# Altium integrated library NSC LDO.IntLib: 2590 symbols (part 57 of 64)
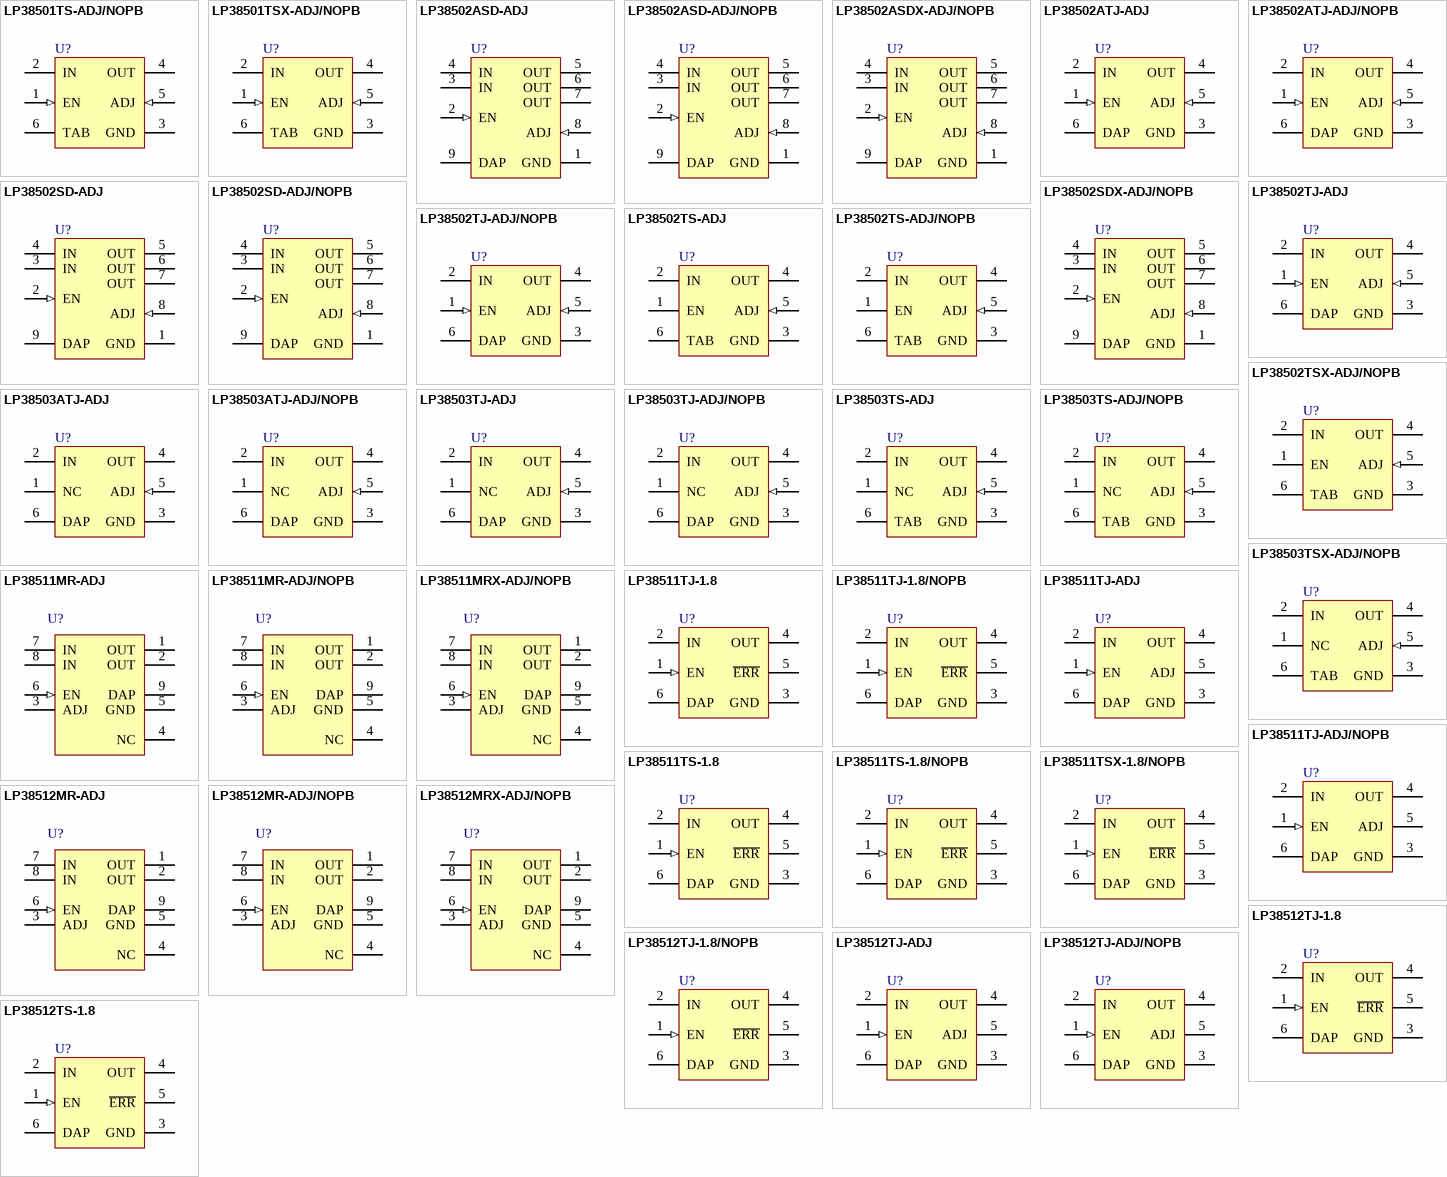
[diagram p121: symbols LP38501TS-ADJ/NOPB to LP38512TS-1.8]

## LP38502ATJ-ADJ
designator U?
1.5A FlexCap Low Dropout Linear Regulator for 2.7V to 5.5V Inputs, 6-pin TO-263 Thin; PartNumber: LP38502ATJ-ADJ; Manufacturer: National Semiconductor; PackageTopMarking: NSUZXYTTE#*LP38502A*TJ-ADJ; PowerWise: N; CompType: LDO IC; Published: 4-Dec-2008; DatasheetVersion: May-2008; PackageVersion: revE, Jan-2008; PackageReference: TJ5A; Publisher: Altium Limited; PackageDescription: Thin TO-263, Molded, 9.85 x 10.16 x 2mm Body, 5 Lead, 1.7mm Pitch, Surface Mount; RoHS: Y; PinCount: 5; ComponentLink1Description: LP38502-ADJ Datasheet; ComponentLink1URL: http://www.national.com/ds/LP/LP38502-ADJ.pdf; ComponentLink2Description: LP38502-ADJ Web Page; ComponentLink2URL: http://www.national.com/pf/LP/LP38500-ADJ.html; ComponentLink3Description: TJ5A Package Page; ComponentLink3URL: http://www.national.com/packaging/folders/tj5a.html
footprint TJ5A_N (D2-PAK, 6-Leads, Body 9.9x10.2mm, Pitch 1.7mm, Lead Span 14mm, IPC Medium Density)
footprint TJ5A_L (D2-PAK, 6-Leads, Body 9.9x10.2mm, Pitch 1.7mm, Lead Span 14mm, IPC High Density)
footprint TJ5A_M (D2-PAK, 6-Leads, Body 9.9x10.2mm, Pitch 1.7mm, Lead Span 14mm, IPC Low Density)
pins: 1 EN (in), 2 IN (power), 3 GND (power), 4 OUT (power), 5 ADJ (in), 6 DAP (power)

## LP38502ATJ-ADJ/NOPB
designator U?
1.5A FlexCap Low Dropout Linear Regulator for 2.7V to 5.5V Inputs, 5-pin TO-263 Thin, Pb-Free; PartNumber: LP38502ATJ-ADJ/NOPB; Manufacturer: National Semiconductor; PackageTopMarking: NSUZXYTTE#*LP38502A*TJ-ADJ; PowerWise: N; CompType: LDO IC; Published: 1-Mar-2010; DatasheetVersion: May-2008; PackageVersion: revE, Jan-2008; PackageReference: TJ5A; Publisher: Altium Limited; PackageDescription: Thin TO-263, Molded, 9.85 x 10.16 x 2mm Body, 5 Lead, 1.7mm Pitch, Surface Mount; Supplier 1: Digi-Key; Supplier Part Number 1: LP38502ATJ-ADJTR-ND; Supplier 2: Digi-Key; Supplier Part Number 2: LP38502ATJ-ADJCT-ND; Supplier 3: Digi-Key; Supplier Part Number 3: LP38502ATJ-ADJDKR-ND; RoHS: Y; PinCount: 5; ComponentLink1Description: LP38502-ADJ Datasheet; ComponentLink1URL: http://www.national.com/ds/LP/LP38502-ADJ.pdf; ComponentLink2Description: LP38502-ADJ Web Page; ComponentLink2URL: http://www.national.com/pf/LP/LP38502-ADJ.html; ComponentLink3Description: TJ5A Package Page; ComponentLink3URL: http://www.national.com/packaging/folders/tj5a.html
footprint TJ5A_N (D2-PAK, 6-Leads, Body 9.9x10.2mm, Pitch 1.7mm, Lead Span 14mm, IPC Medium Density)
footprint TJ5A_L (D2-PAK, 6-Leads, Body 9.9x10.2mm, Pitch 1.7mm, Lead Span 14mm, IPC High Density)
footprint TJ5A_M (D2-PAK, 6-Leads, Body 9.9x10.2mm, Pitch 1.7mm, Lead Span 14mm, IPC Low Density)
pins: 1 EN (in), 2 IN (power), 3 GND (power), 4 OUT (power), 5 ADJ (in), 6 DAP (power)

## LP38502SD-ADJ
designator U?
1.5A FlexCap Low Dropout Linear Regulator for 2.7V to 5.5V Inputs, 8-pin LLP; PartNumber: LP38502SD-ADJ; Manufacturer: National Semiconductor; PackageTopMarking: XYTT*LKVB; PowerWise: N; CompType: LDO IC; Published: 4-Dec-2008; DatasheetVersion: May-2008; PackageVersion: revA, Jan-2004; PackageReference: SDA08C; Publisher: Altium Limited; PackageDescription: LLP, Plastic, Dual, 2.5 x 3.0 x 0.8mm Body, 8 Lead, 0.5mm Pitch, No Pullback; RoHS: Y; PinCount: 8; ComponentLink1Description: LP38502-ADJ Datasheet; ComponentLink1URL: http://www.national.com/ds/LP/LP38502-ADJ.pdf; ComponentLink2Description: LP38502-ADJ Web Page; ComponentLink2URL: http://www.national.com/pf/LP/LP38500-ADJ.html; ComponentLink3Description: SDA08C Package Page; ComponentLink3URL: http://www.national.com/packaging/folders/sda08c.html
footprint SDA08C (SON, 8-Leads, Body 2.5x3mm, Pitch 0.5mm, NSC Recommended)
pins: 1 GND (power), 2 EN (in), 3 IN (power), 4 IN (power), 5 OUT (power), 6 OUT (power), 7 OUT (power), 8 ADJ (in), 9 DAP (power)

## LP38502SD-ADJ/NOPB
designator U?
1.5A FlexCap Low Dropout Linear Regulator for 2.7V to 5.5V Inputs, 8-pin LLP, Pb-Free; PartNumber: LP38502SD-ADJ/NOPB; Manufacturer: National Semiconductor; PackageTopMarking: XYTT*LKVB; PowerWise: N; CompType: LDO IC; Published: 1-Mar-2010; DatasheetVersion: May-2008; PackageVersion: revA, Jan-2004; PackageReference: SDA08C; Publisher: Altium Limited; PackageDescription: LLP, Plastic, Dual, 2.5 x 3.0 x 0.8mm Body, 8 Lead, 0.5mm Pitch, No Pullback; Supplier 1: Digi-Key; Supplier Part Number 1: LP38502SD-ADJTR-ND; Supplier 2: Digi-Key; Supplier Part Number 2: LP38502SD-ADJCT-ND; Supplier 3: Digi-Key; Supplier Part Number 3: LP38502SD-ADJDKR-ND; Supplier 4: Farnell; Supplier Part Number 4: 1685575; RoHS: Y; PinCount: 8; ComponentLink1Description: LP38502-ADJ Datasheet; ComponentLink1URL: http://www.national.com/ds/LP/LP38502-ADJ.pdf; ComponentLink2Description: LP38502-ADJ Web Page; ComponentLink2URL: http://www.national.com/pf/LP/LP38502-ADJ.html; ComponentLink3Description: SDA08C Package Page; ComponentLink3URL: http://www.national.com/packaging/folders/sda08c.html
footprint SDA08C (SON, 8-Leads, Body 2.5x3mm, Pitch 0.5mm, NSC Recommended)
pins: 1 GND (power), 2 EN (in), 3 IN (power), 4 IN (power), 5 OUT (power), 6 OUT (power), 7 OUT (power), 8 ADJ (in), 9 DAP (power)

## LP38502SDX-ADJ/NOPB
designator U?
1.5A FlexCap Low Dropout Linear Regulator for 2.7V to 5.5V Inputs, 8-pin LLP, Pb-Free; PartNumber: LP38502SDX-ADJ/NOPB; Manufacturer: National Semiconductor; PackageTopMarking: XYTT*LKVB; PowerWise: N; CompType: LDO IC; Published: 1-Mar-2010; DatasheetVersion: May-2008; PackageVersion: revA, Jan-2004; PackageReference: SDA08C; Publisher: Altium Limited; PackageDescription: LLP, Plastic, Dual, 2.5 x 3.0 x 0.8mm Body, 8 Lead, 0.5mm Pitch, No Pullback; Supplier 1: Digi-Key; Supplier Part Number 1: LP38502SDX-ADJ-ND; RoHS: Y; PinCount: 8; ComponentLink1Description: LP38502-ADJ Datasheet; ComponentLink1URL: http://www.national.com/ds/LP/LP38502-ADJ.pdf; ComponentLink2Description: LP38502-ADJ Web Page; ComponentLink2URL: http://www.national.com/pf/LP/LP38502-ADJ.html; ComponentLink3Description: SDA08C Package Page; ComponentLink3URL: http://www.national.com/packaging/folders/sda08c.html
footprint SDA08C (SON, 8-Leads, Body 2.5x3mm, Pitch 0.5mm, NSC Recommended)
pins: 1 GND (power), 2 EN (in), 3 IN (power), 4 IN (power), 5 OUT (power), 6 OUT (power), 7 OUT (power), 8 ADJ (in), 9 DAP (power)

## LP38502TJ-ADJ
designator U?
1.5A FlexCap Low Dropout Linear Regulator for 2.7V to 5.5V Inputs, 6-pin TO-263 Thin; PartNumber: LP38502TJ-ADJ; Manufacturer: National Semiconductor; PackageTopMarking: NSUZXYTTE#*LP38502*TJ-ADJ; PowerWise: N; CompType: LDO IC; Published: 4-Dec-2008; DatasheetVersion: May-2008; PackageVersion: revE, Jan-2008; PackageReference: TJ5A; Publisher: Altium Limited; PackageDescription: Thin TO-263, Molded, 9.85 x 10.16 x 2mm Body, 5 Lead, 1.7mm Pitch, Surface Mount; RoHS: Y; PinCount: 5; ComponentLink1Description: LP38502-ADJ Datasheet; ComponentLink1URL: http://www.national.com/ds/LP/LP38502-ADJ.pdf; ComponentLink2Description: LP38502-ADJ Web Page; ComponentLink2URL: http://www.national.com/pf/LP/LP38500-ADJ.html; ComponentLink3Description: TJ5A Package Page; ComponentLink3URL: http://www.national.com/packaging/folders/tj5a.html
footprint TJ5A_N (D2-PAK, 6-Leads, Body 9.9x10.2mm, Pitch 1.7mm, Lead Span 14mm, IPC Medium Density)
footprint TJ5A_L (D2-PAK, 6-Leads, Body 9.9x10.2mm, Pitch 1.7mm, Lead Span 14mm, IPC High Density)
footprint TJ5A_M (D2-PAK, 6-Leads, Body 9.9x10.2mm, Pitch 1.7mm, Lead Span 14mm, IPC Low Density)
pins: 1 EN (in), 2 IN (power), 3 GND (power), 4 OUT (power), 5 ADJ (in), 6 DAP (power)

## LP38502TJ-ADJ/NOPB
designator U?
1.5A FlexCap Low Dropout Linear Regulator for 2.7V to 5.5V Inputs, 5-pin TO-263 Thin, Pb-Free; PartNumber: LP38502TJ-ADJ/NOPB; Manufacturer: National Semiconductor; PackageTopMarking: NSUZXYTTE#*LP38502*TJ-ADJ; PowerWise: N; CompType: LDO IC; Published: 1-Mar-2010; DatasheetVersion: May-2008; PackageVersion: revE, Jan-2008; PackageReference: TJ5A; Publisher: Altium Limited; PackageDescription: Thin TO-263, Molded, 9.85 x 10.16 x 2mm Body, 5 Lead, 1.7mm Pitch, Surface Mount; Supplier 1: Digi-Key; Supplier Part Number 1: LP38502TJ-ADJTR-ND; Supplier 2: Digi-Key; Supplier Part Number 2: LP38502TJ-ADJCT-ND; Supplier 3: Digi-Key; Supplier Part Number 3: LP38502TJ-ADJDKR-ND; RoHS: Y; PinCount: 5; ComponentLink1Description: LP38502-ADJ Datasheet; ComponentLink1URL: http://www.national.com/ds/LP/LP38502-ADJ.pdf; ComponentLink2Description: LP38502-ADJ Web Page; ComponentLink2URL: http://www.national.com/pf/LP/LP38502-ADJ.html; ComponentLink3Description: TJ5A Package Page; ComponentLink3URL: http://www.national.com/packaging/folders/tj5a.html
footprint TJ5A_N (D2-PAK, 6-Leads, Body 9.9x10.2mm, Pitch 1.7mm, Lead Span 14mm, IPC Medium Density)
footprint TJ5A_L (D2-PAK, 6-Leads, Body 9.9x10.2mm, Pitch 1.7mm, Lead Span 14mm, IPC High Density)
footprint TJ5A_M (D2-PAK, 6-Leads, Body 9.9x10.2mm, Pitch 1.7mm, Lead Span 14mm, IPC Low Density)
pins: 1 EN (in), 2 IN (power), 3 GND (power), 4 OUT (power), 5 ADJ (in), 6 DAP (power)

## LP38502TS-ADJ
designator U?
1.5A FlexCap Low Dropout Linear Regulator for 2.7V to 5.5V Inputs, 5-pin TO-263; PartNumber: LP38502TS-ADJ; Manufacturer: National Semiconductor; PackageTopMarking: NSUZXYTTE#*LP38502*TS-ADJ; PowerWise: N; CompType: LDO IC; Published: 4-Dec-2008; DatasheetVersion: May-2008; PackageVersion: revD, Apr-2005; PackageReference: TS5B; Publisher: Altium Limited; PackageDescription: TO-263, Molded, .400 x .390 x .180in, 5 Lead, .067in Pitch, Surface Mount; RoHS: Y; PinCount: 5; Code_JEDEC: MO-169-AB; ComponentLink1Description: LP38502-ADJ Datasheet; ComponentLink1URL: http://www.national.com/ds/LP/LP38502-ADJ.pdf; ComponentLink2Description: LP38502-ADJ Web Page; ComponentLink2URL: http://www.national.com/pf/LP/LP38500-ADJ.html; ComponentLink3Description: TS5B Package Page; ComponentLink3URL: http://www.national.com/packaging/folders/ts5b.html
footprint TS5B_N (D2-PAK, 6-Leads, Body 8.6x10.2mm, Pitch 1.7mm, Lead Span 14.1mm, IPC Medium Density)
footprint TS5B_L (D2-PAK, 6-Leads, Body 8.6x10.2mm, Pitch 1.7mm, Lead Span 14.1mm, IPC High Density)
footprint TS5B_M (D2-PAK, 6-Leads, Body 8.6x10.2mm, Pitch 1.7mm, Lead Span 14.1mm, IPC Low Density)
pins: 1 EN, 2 IN (power), 3 GND (power), 4 OUT (power), 5 ADJ (in), 6 TAB (power)

## LP38502TS-ADJ/NOPB
designator U?
1.5A FlexCap Low Dropout Linear Regulator for 2.7V to 5.5V Inputs, 5-pin TO-263, Pb-Free; PartNumber: LP38502TS-ADJ/NOPB; Manufacturer: National Semiconductor; PackageTopMarking: NSUZXYTTE#*LP38502*TS-ADJ; PowerWise: N; CompType: LDO IC; Published: 1-Mar-2010; DatasheetVersion: May-2008; PackageVersion: revD, Apr-2005; PackageReference: TS5B; Publisher: Altium Limited; PackageDescription: TO-263, Molded, .400 x .390 x .180in, 5 Lead, .067in Pitch, Surface Mount; Supplier 1: Digi-Key; Supplier Part Number 1: LP38502TS-ADJ-ND; RoHS: Y; PinCount: 5; Code_JEDEC: MO-169-AB; ComponentLink1Description: LP38502-ADJ Datasheet; ComponentLink1URL: http://www.national.com/ds/LP/LP38502-ADJ.pdf; ComponentLink2Description: LP38502-ADJ Web Page; ComponentLink2URL: http://www.national.com/pf/LP/LP38502-ADJ.html; ComponentLink3Description: TS5B Package Page; ComponentLink3URL: http://www.national.com/packaging/folders/ts5b.html
footprint TS5B_N (D2-PAK, 6-Leads, Body 8.6x10.2mm, Pitch 1.7mm, Lead Span 14.1mm, IPC Medium Density)
footprint TS5B_L (D2-PAK, 6-Leads, Body 8.6x10.2mm, Pitch 1.7mm, Lead Span 14.1mm, IPC High Density)
footprint TS5B_M (D2-PAK, 6-Leads, Body 8.6x10.2mm, Pitch 1.7mm, Lead Span 14.1mm, IPC Low Density)
pins: 1 EN, 2 IN (power), 3 GND (power), 4 OUT (power), 5 ADJ (in), 6 TAB (power)

## LP38502TSX-ADJ/NOPB
designator U?
1.5A FlexCap Low Dropout Linear Regulator for 2.7V to 5.5V Inputs, 5-pin TO-263, Pb-Free; PartNumber: LP38502TSX-ADJ/NOPB; Manufacturer: National Semiconductor; PackageTopMarking: NSUZXYTTE#*LP38502*TS-ADJ; PowerWise: N; CompType: LDO IC; Published: 1-Mar-2010; DatasheetVersion: May-2008; PackageVersion: revD, Apr-2005; PackageReference: TS5B; Publisher: Altium Limited; PackageDescription: TO-263, Molded, .400 x .390 x .180in, 5 Lead, .067in Pitch, Surface Mount; Supplier 1: Digi-Key; Supplier Part Number 1: LP38502TSX-ADJTR-ND; Supplier 2: Digi-Key; Supplier Part Number 2: LP38502TSX-ADJCT-ND; Supplier 3: Digi-Key; Supplier Part Number 3: LP38502TSX-ADJDKR-ND; Supplier 4: Farnell; Supplier Part Number 4: 1694368; RoHS: Y; PinCount: 5; Code_JEDEC: MO-169-AB; ComponentLink1Description: LP38502-ADJ Datasheet; ComponentLink1URL: http://www.national.com/ds/LP/LP38502-ADJ.pdf; ComponentLink2Description: LP38502-ADJ Web Page; ComponentLink2URL: http://www.national.com/pf/LP/LP38502-ADJ.html; ComponentLink3Description: TS5B Package Page; ComponentLink3URL: http://www.national.com/packaging/folders/ts5b.html
footprint TS5B_N (D2-PAK, 6-Leads, Body 8.6x10.2mm, Pitch 1.7mm, Lead Span 14.1mm, IPC Medium Density)
footprint TS5B_L (D2-PAK, 6-Leads, Body 8.6x10.2mm, Pitch 1.7mm, Lead Span 14.1mm, IPC High Density)
footprint TS5B_M (D2-PAK, 6-Leads, Body 8.6x10.2mm, Pitch 1.7mm, Lead Span 14.1mm, IPC Low Density)
pins: 1 EN, 2 IN (power), 3 GND (power), 4 OUT (power), 5 ADJ (in), 6 TAB (power)

## LP38503ATJ-ADJ
designator U?
3A FlexCap Low Dropout Linear Regulator for 2.7V to 5.5V Inputs, 6-pin TO-263 Thin; PartNumber: LP38503ATJ-ADJ; Manufacturer: National Semiconductor; PackageTopMarking: NSUZXYTTE#*LP38503A*TJ-ADJ; PowerWise: N; CompType: LDO IC; Published: 4-Dec-2008; DatasheetVersion: May-2008; PackageVersion: revE, Jan-2008; PackageReference: TJ5A; Publisher: Altium Limited; PackageDescription: Thin TO-263, Molded, 9.85 x 10.16 x 2mm Body, 5 Lead, 1.7mm Pitch, Surface Mount; RoHS: Y; PinCount: 5; ComponentLink1Description: LP38503-ADJ Datasheet; ComponentLink1URL: http://www.national.com/ds/LP/LP38503-ADJ.pdf; ComponentLink2Description: LP38503-ADJ Web Page; ComponentLink2URL: http://www.national.com/pf/LP/LP38501-ADJ.html; ComponentLink3Description: TJ5A Package Page; ComponentLink3URL: http://www.national.com/packaging/folders/tj5a.html
footprint TJ5A_N (D2-PAK, 6-Leads, Body 9.9x10.2mm, Pitch 1.7mm, Lead Span 14mm, IPC Medium Density)
footprint TJ5A_L (D2-PAK, 6-Leads, Body 9.9x10.2mm, Pitch 1.7mm, Lead Span 14mm, IPC High Density)
footprint TJ5A_M (D2-PAK, 6-Leads, Body 9.9x10.2mm, Pitch 1.7mm, Lead Span 14mm, IPC Low Density)
pins: 1 NC, 2 IN (power), 3 GND (power), 4 OUT (power), 5 ADJ (in), 6 DAP (power)

## LP38503ATJ-ADJ/NOPB
designator U?
3A FlexCap Low Dropout Linear Regulator for 2.7V to 5.5V Inputs, 5-pin TO-263 Thin, Pb-Free; PartNumber: LP38503ATJ-ADJ/NOPB; Manufacturer: National Semiconductor; PackageTopMarking: NSUZXYTTE#*LP38503A*TJ-ADJ; PowerWise: N; CompType: LDO IC; Published: 1-Mar-2010; DatasheetVersion: May-2008; PackageVersion: revE, Jan-2008; PackageReference: TJ5A; Publisher: Altium Limited; PackageDescription: Thin TO-263, Molded, 9.85 x 10.16 x 2mm Body, 5 Lead, 1.7mm Pitch, Surface Mount; Supplier 1: Digi-Key; Supplier Part Number 1: LP38503ATJ-ADJTR-ND; Supplier 2: Digi-Key; Supplier Part Number 2: LP38503ATJ-ADJCT-ND; Supplier 3: Digi-Key; Supplier Part Number 3: LP38503ATJ-ADJDKR-ND; RoHS: Y; PinCount: 5; ComponentLink1Description: LP38503-ADJ Datasheet; ComponentLink1URL: http://www.national.com/ds/LP/LP38503-ADJ.pdf; ComponentLink2Description: LP38503-ADJ Web Page; ComponentLink2URL: http://www.national.com/pf/LP/LP38503-ADJ.html; ComponentLink3Description: TJ5A Package Page; ComponentLink3URL: http://www.national.com/packaging/folders/tj5a.html
footprint TJ5A_N (D2-PAK, 6-Leads, Body 9.9x10.2mm, Pitch 1.7mm, Lead Span 14mm, IPC Medium Density)
footprint TJ5A_L (D2-PAK, 6-Leads, Body 9.9x10.2mm, Pitch 1.7mm, Lead Span 14mm, IPC High Density)
footprint TJ5A_M (D2-PAK, 6-Leads, Body 9.9x10.2mm, Pitch 1.7mm, Lead Span 14mm, IPC Low Density)
pins: 1 NC, 2 IN (power), 3 GND (power), 4 OUT (power), 5 ADJ (in), 6 DAP (power)

## LP38503TJ-ADJ
designator U?
3A FlexCap Low Dropout Linear Regulator for 2.7V to 5.5V Inputs, 6-pin TO-263 Thin; PartNumber: LP38503TJ-ADJ; Manufacturer: National Semiconductor; PackageTopMarking: NSUZXYTTE#*LP38503*TJ-ADJ; PowerWise: N; CompType: LDO IC; Published: 4-Dec-2008; DatasheetVersion: May-2008; PackageVersion: revE, Jan-2008; PackageReference: TJ5A; Publisher: Altium Limited; PackageDescription: Thin TO-263, Molded, 9.85 x 10.16 x 2mm Body, 5 Lead, 1.7mm Pitch, Surface Mount; RoHS: Y; PinCount: 5; ComponentLink1Description: LP38503-ADJ Datasheet; ComponentLink1URL: http://www.national.com/ds/LP/LP38503-ADJ.pdf; ComponentLink2Description: LP38503-ADJ Web Page; ComponentLink2URL: http://www.national.com/pf/LP/LP38501-ADJ.html; ComponentLink3Description: TJ5A Package Page; ComponentLink3URL: http://www.national.com/packaging/folders/tj5a.html
footprint TJ5A_N (D2-PAK, 6-Leads, Body 9.9x10.2mm, Pitch 1.7mm, Lead Span 14mm, IPC Medium Density)
footprint TJ5A_L (D2-PAK, 6-Leads, Body 9.9x10.2mm, Pitch 1.7mm, Lead Span 14mm, IPC High Density)
footprint TJ5A_M (D2-PAK, 6-Leads, Body 9.9x10.2mm, Pitch 1.7mm, Lead Span 14mm, IPC Low Density)
pins: 1 NC, 2 IN (power), 3 GND (power), 4 OUT (power), 5 ADJ (in), 6 DAP (power)

## LP38503TJ-ADJ/NOPB
designator U?
3A FlexCap Low Dropout Linear Regulator for 2.7V to 5.5V Inputs, 5-pin TO-263 Thin, Pb-Free; PartNumber: LP38503TJ-ADJ/NOPB; Manufacturer: National Semiconductor; PackageTopMarking: NSUZXYTTE#*LP38503*TJ-ADJ; PowerWise: N; CompType: LDO IC; Published: 1-Mar-2010; DatasheetVersion: May-2008; PackageVersion: revE, Jan-2008; PackageReference: TJ5A; Publisher: Altium Limited; PackageDescription: Thin TO-263, Molded, 9.85 x 10.16 x 2mm Body, 5 Lead, 1.7mm Pitch, Surface Mount; Supplier 1: Digi-Key; Supplier Part Number 1: LP38503TJ-ADJTR-ND; Supplier 2: Digi-Key; Supplier Part Number 2: LP38503TJ-ADJCT-ND; Supplier 3: Digi-Key; Supplier Part Number 3: LP38503TJ-ADJDKR-ND; RoHS: Y; PinCount: 5; ComponentLink1Description: LP38503-ADJ Datasheet; ComponentLink1URL: http://www.national.com/ds/LP/LP38503-ADJ.pdf; ComponentLink2Description: LP38503-ADJ Web Page; ComponentLink2URL: http://www.national.com/pf/LP/LP38503-ADJ.html; ComponentLink3Description: TJ5A Package Page; ComponentLink3URL: http://www.national.com/packaging/folders/tj5a.html
footprint TJ5A_N (D2-PAK, 6-Leads, Body 9.9x10.2mm, Pitch 1.7mm, Lead Span 14mm, IPC Medium Density)
footprint TJ5A_L (D2-PAK, 6-Leads, Body 9.9x10.2mm, Pitch 1.7mm, Lead Span 14mm, IPC High Density)
footprint TJ5A_M (D2-PAK, 6-Leads, Body 9.9x10.2mm, Pitch 1.7mm, Lead Span 14mm, IPC Low Density)
pins: 1 NC, 2 IN (power), 3 GND (power), 4 OUT (power), 5 ADJ (in), 6 DAP (power)

## LP38503TS-ADJ
designator U?
3A FlexCap Low Dropout Linear Regulator for 2.7V to 5.5V Inputs, 5-pin TO-263; PartNumber: LP38503TS-ADJ; Manufacturer: National Semiconductor; PackageTopMarking: NSUZXYTTE#*LP38503*TS-ADJ; PowerWise: N; CompType: LDO IC; Published: 4-Dec-2008; DatasheetVersion: May-2008; PackageVersion: revD, Apr-2005; PackageReference: TS5B; Publisher: Altium Limited; PackageDescription: TO-263, Molded, .400 x .390 x .180in, 5 Lead, .067in Pitch, Surface Mount; RoHS: Y; PinCount: 5; Code_JEDEC: MO-169-AB; ComponentLink1Description: LP38503-ADJ Datasheet; ComponentLink1URL: http://www.national.com/ds/LP/LP38503-ADJ.pdf; ComponentLink2Description: LP38503-ADJ Web Page; ComponentLink2URL: http://www.national.com/pf/LP/LP38501-ADJ.html; ComponentLink3Description: TS5B Package Page; ComponentLink3URL: http://www.national.com/packaging/folders/ts5b.html
footprint TS5B_N (D2-PAK, 6-Leads, Body 8.6x10.2mm, Pitch 1.7mm, Lead Span 14.1mm, IPC Medium Density)
footprint TS5B_L (D2-PAK, 6-Leads, Body 8.6x10.2mm, Pitch 1.7mm, Lead Span 14.1mm, IPC High Density)
footprint TS5B_M (D2-PAK, 6-Leads, Body 8.6x10.2mm, Pitch 1.7mm, Lead Span 14.1mm, IPC Low Density)
pins: 1 NC, 2 IN (power), 3 GND (power), 4 OUT (power), 5 ADJ (in), 6 TAB (power)

## LP38503TS-ADJ/NOPB
designator U?
3A FlexCap Low Dropout Linear Regulator for 2.7V to 5.5V Inputs, 5-pin TO-263, Pb-Free; PartNumber: LP38503TS-ADJ/NOPB; Manufacturer: National Semiconductor; PackageTopMarking: NSUZXYTTE#*LP38503*TS-ADJ; PowerWise: N; CompType: LDO IC; Published: 1-Mar-2010; DatasheetVersion: May-2008; PackageVersion: revD, Apr-2005; PackageReference: TS5B; Publisher: Altium Limited; PackageDescription: TO-263, Molded, .400 x .390 x .180in, 5 Lead, .067in Pitch, Surface Mount; Supplier 1: Digi-Key; Supplier Part Number 1: LP38503TS-ADJ-ND; Supplier 2: Farnell; Supplier Part Number 2: 1694614; RoHS: Y; PinCount: 5; Code_JEDEC: MO-169-AB; ComponentLink1Description: LP38503-ADJ Datasheet; ComponentLink1URL: http://www.national.com/ds/LP/LP38503-ADJ.pdf; ComponentLink2Description: LP38503-ADJ Web Page; ComponentLink2URL: http://www.national.com/pf/LP/LP38503-ADJ.html; ComponentLink3Description: TS5B Package Page; ComponentLink3URL: http://www.national.com/packaging/folders/ts5b.html
footprint TS5B_N (D2-PAK, 6-Leads, Body 8.6x10.2mm, Pitch 1.7mm, Lead Span 14.1mm, IPC Medium Density)
footprint TS5B_L (D2-PAK, 6-Leads, Body 8.6x10.2mm, Pitch 1.7mm, Lead Span 14.1mm, IPC High Density)
footprint TS5B_M (D2-PAK, 6-Leads, Body 8.6x10.2mm, Pitch 1.7mm, Lead Span 14.1mm, IPC Low Density)
pins: 1 NC, 2 IN (power), 3 GND (power), 4 OUT (power), 5 ADJ (in), 6 TAB (power)

## LP38503TSX-ADJ/NOPB
designator U?
3A FlexCap Low Dropout Linear Regulator for 2.7V to 5.5V Inputs, 5-pin TO-263, Pb-Free; PartNumber: LP38503TSX-ADJ/NOPB; Manufacturer: National Semiconductor; PackageTopMarking: NSUZXYTTE#*LP38503*TS-ADJ; PowerWise: N; CompType: LDO IC; Published: 1-Mar-2010; DatasheetVersion: May-2008; PackageVersion: revD, Apr-2005; PackageReference: TS5B; Publisher: Altium Limited; PackageDescription: TO-263, Molded, .400 x .390 x .180in, 5 Lead, .067in Pitch, Surface Mount; Supplier 1: Digi-Key; Supplier Part Number 1: LP38503TSX-ADJ-ND; RoHS: Y; PinCount: 5; Code_JEDEC: MO-169-AB; ComponentLink1Description: LP38503-ADJ Datasheet; ComponentLink1URL: http://www.national.com/ds/LP/LP38503-ADJ.pdf; ComponentLink2Description: LP38503-ADJ Web Page; ComponentLink2URL: http://www.national.com/pf/LP/LP38503-ADJ.html; ComponentLink3Description: TS5B Package Page; ComponentLink3URL: http://www.national.com/packaging/folders/ts5b.html
footprint TS5B_N (D2-PAK, 6-Leads, Body 8.6x10.2mm, Pitch 1.7mm, Lead Span 14.1mm, IPC Medium Density)
footprint TS5B_L (D2-PAK, 6-Leads, Body 8.6x10.2mm, Pitch 1.7mm, Lead Span 14.1mm, IPC High Density)
footprint TS5B_M (D2-PAK, 6-Leads, Body 8.6x10.2mm, Pitch 1.7mm, Lead Span 14.1mm, IPC Low Density)
pins: 1 NC, 2 IN (power), 3 GND (power), 4 OUT (power), 5 ADJ (in), 6 TAB (power)

## LP38511MR-ADJ
designator U?
800 mA Fast-Transient Response Low-Dropout Linear Voltage Regulator with Error Flag, 8-pin PSOP; PartNumber: LP38511MR-ADJ; Manufacturer: National Semiconductor; PackageTopMarking: NSXYTT*L38511*-ADJ; PowerWise: N; CompType: LDO IC; Published: 29-May-2009; DatasheetVersion: Feb-2009; PackageVersion: revB, Dec-2007; PackageReference: MRA08B; Publisher: Altium Limited; PackageDescription: Molded, PSOP .193 x .154 x .058in, 8 Lead, .050in Pitch, Large DAP; RoHS: Y; PinCount: 8; Code_JEDEC: MS-012-AA; ComponentLink1Description: LP38511 Datasheet; ComponentLink1URL: http://www.national.com/ds/LP/LP38511-ADJ.pdf; ComponentLink2Description: LP38511 Web Page; ComponentLink2URL: http://www.national.com/pf/LP/LP38511.html; ComponentLink3Description: MRA08B Package Page; ComponentLink3URL: http://www.national.com/packaging/folders/mra08b.html
footprint MRA08B_N (SOIC, 8-Leads, Body 4.9x3.9mm, Pitch 1.27mm, Exposed Pad, IPC Medium Density)
footprint MRA08B_L (SOIC, 8-Leads, Body 4.9x3.9mm, Pitch 1.27mm, Exposed Pad, IPC High Density)
footprint MRA08B_M (SOIC, 8-Leads, Body 4.9x3.9mm, Pitch 1.27mm, Exposed Pad, IPC Low Density)
pins: 1 OUT (power), 2 OUT (power), 3 ADJ, 4 NC, 5 GND (power), 6 EN (in), 7 IN (power), 8 IN (power), 9 DAP

## LP38511MR-ADJ/NOPB
designator U?
800mA Fast-Transient Response Adjustable Low-Dropout Linear Voltage Regulator, 8-pin PSOP, Pb-Free; PartNumber: LP38511MR-ADJ/NOPB; Manufacturer: National Semiconductor; PackageTopMarking: NSXYTT*L38511*-ADJ; PowerWise: N; CompType: LDO IC; Published: 1-Mar-2010; DatasheetVersion: Feb-2009; PackageVersion: revB, Dec-2007; PackageReference: MRA08B; Publisher: Altium Limited; PackageDescription: Molded, PSOP .193 x .154 x .058in, 8 Lead, .050in Pitch, Large DAP; Supplier 1: Digi-Key; Supplier Part Number 1: LP38511MR-ADJ-ND; Supplier 2: Farnell; Supplier Part Number 2: 1714824; RoHS: Y; PinCount: 8; Code_JEDEC: MS-012-AA; ComponentLink1Description: LP38511 Datasheet; ComponentLink1URL: http://www.national.com/ds/LP/LP38511-ADJ.pdf; ComponentLink2Description: LP38511 Web Page; ComponentLink2URL: http://www.national.com/pf/LP/LP38511.html; ComponentLink3Description: MRA08B Package Page; ComponentLink3URL: http://www.national.com/packaging/folders/mra08b.html
footprint MRA08B_N (SOIC, 8-Leads, Body 4.9x3.9mm, Pitch 1.27mm, Exposed Pad, IPC Medium Density)
footprint MRA08B_L (SOIC, 8-Leads, Body 4.9x3.9mm, Pitch 1.27mm, Exposed Pad, IPC High Density)
footprint MRA08B_M (SOIC, 8-Leads, Body 4.9x3.9mm, Pitch 1.27mm, Exposed Pad, IPC Low Density)
pins: 1 OUT (power), 2 OUT (power), 3 ADJ, 4 NC, 5 GND (power), 6 EN (in), 7 IN (power), 8 IN (power), 9 DAP

## LP38511MRX-ADJ/NOPB
designator U?
800mA Fast-Transient Response Adjustable Low-Dropout Linear Voltage Regulator, 8-pin PSOP, Pb-Free; PartNumber: LP38511MRX-ADJ/NOPB; Manufacturer: National Semiconductor; PackageTopMarking: NSXYTT*L38511*-ADJ; PowerWise: N; CompType: LDO IC; Published: 1-Mar-2010; DatasheetVersion: Feb-2009; PackageVersion: revB, Dec-2007; PackageReference: MRA08B; Publisher: Altium Limited; PackageDescription: Molded, PSOP .193 x .154 x .058in, 8 Lead, .050in Pitch, Large DAP; Supplier 1: Digi-Key; Supplier Part Number 1: LP38511MRX-ADJ-ND; RoHS: Y; PinCount: 8; Code_JEDEC: MS-012-AA; ComponentLink1Description: LP38511 Datasheet; ComponentLink1URL: http://www.national.com/ds/LP/LP38511-ADJ.pdf; ComponentLink2Description: LP38511 Web Page; ComponentLink2URL: http://www.national.com/pf/LP/LP38511.html; ComponentLink3Description: MRA08B Package Page; ComponentLink3URL: http://www.national.com/packaging/folders/mra08b.html
footprint MRA08B_N (SOIC, 8-Leads, Body 4.9x3.9mm, Pitch 1.27mm, Exposed Pad, IPC Medium Density)
footprint MRA08B_L (SOIC, 8-Leads, Body 4.9x3.9mm, Pitch 1.27mm, Exposed Pad, IPC High Density)
footprint MRA08B_M (SOIC, 8-Leads, Body 4.9x3.9mm, Pitch 1.27mm, Exposed Pad, IPC Low Density)
pins: 1 OUT (power), 2 OUT (power), 3 ADJ, 4 NC, 5 GND (power), 6 EN (in), 7 IN (power), 8 IN (power), 9 DAP

## LP38511TJ-1.8
designator U?
800 mA Fast-Transient Response Low-Dropout Linear Voltage Regulator with Error Flag, 6-pin TO-263 Thin; PartNumber: LP38511TJ-1.8; Manufacturer: National Semiconductor; PackageTopMarking: NSUZXYTTE#*L38511TJ*-1.8; PowerWise: N; CompType: LDO IC; Published: 4-Dec-2008; DatasheetVersion: May-2008; PackageVersion: revE, Jan-2008; PackageReference: TJ5A; Publisher: Altium Limited; PackageDescription: Thin TO-263, Molded, 9.85 x 10.16 x 2mm Body, 5 Lead, 1.7mm Pitch, Surface Mount; RoHS: Y; PinCount: 5; ComponentLink1Description: LP38511 Datasheet; ComponentLink1URL: http://www.national.com/ds/LP/LP38511.pdf; ComponentLink2Description: LP38511 Web Page; ComponentLink2URL: http://www.national.com/pf/LP/LP38511.html; ComponentLink3Description: TJ5A Package Page; ComponentLink3URL: http://www.national.com/packaging/folders/tj5a.html
footprint TJ5A_N (D2-PAK, 6-Leads, Body 9.9x10.2mm, Pitch 1.7mm, Lead Span 14mm, IPC Medium Density)
footprint TJ5A_L (D2-PAK, 6-Leads, Body 9.9x10.2mm, Pitch 1.7mm, Lead Span 14mm, IPC High Density)
footprint TJ5A_M (D2-PAK, 6-Leads, Body 9.9x10.2mm, Pitch 1.7mm, Lead Span 14mm, IPC Low Density)
pins: 1 EN (in), 2 IN (power), 3 GND (power), 4 OUT (power), 5 ~{ERR} (oc), 6 DAP (power)

## LP38511TJ-1.8/NOPB
designator U?
800 mA Fast-Transient Response Low-Dropout Linear Voltage Regulator with Error Flag, 5-pin TO-263 Thin, Pb-Free; PartNumber: LP38511TJ-1.8/NOPB; Manufacturer: National Semiconductor; PackageTopMarking: NSUZXYTTE#*L38511TJ*-1.8; PowerWise: N; CompType: LDO IC; Published: 1-Mar-2010; DatasheetVersion: May-2008; PackageVersion: revE, Jan-2008; PackageReference: TJ5A; Publisher: Altium Limited; PackageDescription: Thin TO-263, Molded, 9.85 x 10.16 x 2mm Body, 5 Lead, 1.7mm Pitch, Surface Mount; Supplier 1: Digi-Key; Supplier Part Number 1: LP38511TJ-1.8TR-ND; Supplier 2: Digi-Key; Supplier Part Number 2: LP38511TJ-1.8CT-ND; Supplier 3: Digi-Key; Supplier Part Number 3: LP38511TJ-1.8DKR-ND; RoHS: Y; PinCount: 5; ComponentLink1Description: LP38511 Datasheet; ComponentLink1URL: http://www.national.com/ds/LP/LP38511.pdf; ComponentLink2Description: LP38511 Web Page; ComponentLink2URL: http://www.national.com/pf/LP/LP38511.html; ComponentLink3Description: TJ5A Package Page; ComponentLink3URL: http://www.national.com/packaging/folders/tj5a.html
footprint TJ5A_N (D2-PAK, 6-Leads, Body 9.9x10.2mm, Pitch 1.7mm, Lead Span 14mm, IPC Medium Density)
footprint TJ5A_L (D2-PAK, 6-Leads, Body 9.9x10.2mm, Pitch 1.7mm, Lead Span 14mm, IPC High Density)
footprint TJ5A_M (D2-PAK, 6-Leads, Body 9.9x10.2mm, Pitch 1.7mm, Lead Span 14mm, IPC Low Density)
pins: 1 EN (in), 2 IN (power), 3 GND (power), 4 OUT (power), 5 ~{ERR} (oc), 6 DAP (power)

## LP38511TJ-ADJ
designator U?
800 mA Fast-Transient Response Low-Dropout Linear Voltage Regulator with Error Flag, 6-pin TO-263 Thin; PartNumber: LP38511TJ-ADJ; Manufacturer: National Semiconductor; PackageTopMarking: NSUZXYTTE#*LP38511*TJ-ADJ; PowerWise: N; CompType: LDO IC; Published: 29-May-2009; DatasheetVersion: Feb-2009; PackageVersion: revE, Jan-2008; PackageReference: TJ5A; Publisher: Altium Limited; PackageDescription: Thin TO-263, Molded, 9.85 x 10.16 x 2mm Body, 5 Lead, 1.7mm Pitch, Surface Mount; RoHS: Y; PinCount: 5; ComponentLink1Description: LP38511 Datasheet; ComponentLink1URL: http://www.national.com/ds/LP/LP38511-ADJ.pdf; ComponentLink2Description: LP38511 Web Page; ComponentLink2URL: http://www.national.com/pf/LP/LP38511.html; ComponentLink3Description: TJ5A Package Page; ComponentLink3URL: http://www.national.com/packaging/folders/tj5a.html
footprint TJ5A_N (D2-PAK, 6-Leads, Body 9.9x10.2mm, Pitch 1.7mm, Lead Span 14mm, IPC Medium Density)
footprint TJ5A_L (D2-PAK, 6-Leads, Body 9.9x10.2mm, Pitch 1.7mm, Lead Span 14mm, IPC High Density)
footprint TJ5A_M (D2-PAK, 6-Leads, Body 9.9x10.2mm, Pitch 1.7mm, Lead Span 14mm, IPC Low Density)
pins: 1 EN (in), 2 IN (power), 3 GND (power), 4 OUT (power), 5 ADJ, 6 DAP (power)

## LP38511TJ-ADJ/NOPB
designator U?
800mA Fast-Transient Response Adjustable Low-Dropout Linear Voltage Regulator, 5-pin TO-263 Thin, Pb-Free; PartNumber: LP38511TJ-ADJ/NOPB; Manufacturer: National Semiconductor; PackageTopMarking: NSUZXYTTE#*LP38511*TJ-ADJ; PowerWise: N; CompType: LDO IC; Published: 1-Mar-2010; DatasheetVersion: Feb-2009; PackageVersion: revE, Jan-2008; PackageReference: TJ5A; Publisher: Altium Limited; PackageDescription: Thin TO-263, Molded, 9.85 x 10.16 x 2mm Body, 5 Lead, 1.7mm Pitch, Surface Mount; Supplier 1: Digi-Key; Supplier Part Number 1: LP38511TJ-ADJTR-ND; Supplier 2: Digi-Key; Supplier Part Number 2: LP38511TJ-ADJCT-ND; Supplier 3: Digi-Key; Supplier Part Number 3: LP38511TJ-ADJDKR-ND; RoHS: Y; PinCount: 5; ComponentLink1Description: LP38511 Datasheet; ComponentLink1URL: http://www.national.com/ds/LP/LP38511-ADJ.pdf; ComponentLink2Description: LP38511 Web Page; ComponentLink2URL: http://www.national.com/pf/LP/LP38511.html; ComponentLink3Description: TJ5A Package Page; ComponentLink3URL: http://www.national.com/packaging/folders/tj5a.html
footprint TJ5A_N (D2-PAK, 6-Leads, Body 9.9x10.2mm, Pitch 1.7mm, Lead Span 14mm, IPC Medium Density)
footprint TJ5A_L (D2-PAK, 6-Leads, Body 9.9x10.2mm, Pitch 1.7mm, Lead Span 14mm, IPC High Density)
footprint TJ5A_M (D2-PAK, 6-Leads, Body 9.9x10.2mm, Pitch 1.7mm, Lead Span 14mm, IPC Low Density)
pins: 1 EN (in), 2 IN (power), 3 GND (power), 4 OUT (power), 5 ADJ, 6 DAP (power)

## LP38511TS-1.8
designator U?
800 mA Fast-Transient Response Low-Dropout Linear Voltage Regulator with Error Flag, 5-pin TO-263; PartNumber: LP38511TS-1.8; Manufacturer: National Semiconductor; PackageTopMarking: NSUZXYTTE#*LP38511*TS-1.8; PowerWise: N; CompType: LDO IC; Published: 4-Dec-2008; DatasheetVersion: May-2008; PackageVersion: revD, Apr-2005; PackageReference: TS5B; Publisher: Altium Limited; PackageDescription: TO-263, Molded, .400 x .390 x .180in, 5 Lead, .067in Pitch, Surface Mount; RoHS: Y; PinCount: 5; Code_JEDEC: MO-169-AB; ComponentLink1Description: LP38511 Datasheet; ComponentLink1URL: http://www.national.com/ds/LP/LP38511.pdf; ComponentLink2Description: LP38511 Web Page; ComponentLink2URL: http://www.national.com/pf/LP/LP38511.html; ComponentLink3Description: TS5B Package Page; ComponentLink3URL: http://www.national.com/packaging/folders/ts5b.html
footprint TS5B_N (D2-PAK, 6-Leads, Body 8.6x10.2mm, Pitch 1.7mm, Lead Span 14.1mm, IPC Medium Density)
footprint TS5B_L (D2-PAK, 6-Leads, Body 8.6x10.2mm, Pitch 1.7mm, Lead Span 14.1mm, IPC High Density)
footprint TS5B_M (D2-PAK, 6-Leads, Body 8.6x10.2mm, Pitch 1.7mm, Lead Span 14.1mm, IPC Low Density)
pins: 1 EN (in), 2 IN (power), 3 GND (power), 4 OUT (power), 5 ~{ERR} (oc), 6 DAP (power)

## LP38511TS-1.8/NOPB
designator U?
800 mA Fast-Transient Response Low-Dropout Linear Voltage Regulator with Error Flag, 5-pin TO-263, Pb-Free; PartNumber: LP38511TS-1.8/NOPB; Manufacturer: National Semiconductor; PackageTopMarking: NSUZXYTTE#*LP38511*TS-1.8; PowerWise: N; CompType: LDO IC; Published: 1-Mar-2010; DatasheetVersion: May-2008; PackageVersion: revD, Apr-2005; PackageReference: TS5B; Publisher: Altium Limited; PackageDescription: TO-263, Molded, .400 x .390 x .180in, 5 Lead, .067in Pitch, Surface Mount; Supplier 1: Digi-Key; Supplier Part Number 1: LP38511TS-1.8-ND; RoHS: Y; PinCount: 5; Code_JEDEC: MO-169-AB; ComponentLink1Description: LP38511 Datasheet; ComponentLink1URL: http://www.national.com/ds/LP/LP38511.pdf; ComponentLink2Description: LP38511 Web Page; ComponentLink2URL: http://www.national.com/pf/LP/LP38511.html; ComponentLink3Description: TS5B Package Page; ComponentLink3URL: http://www.national.com/packaging/folders/ts5b.html
footprint TS5B_N (D2-PAK, 6-Leads, Body 8.6x10.2mm, Pitch 1.7mm, Lead Span 14.1mm, IPC Medium Density)
footprint TS5B_L (D2-PAK, 6-Leads, Body 8.6x10.2mm, Pitch 1.7mm, Lead Span 14.1mm, IPC High Density)
footprint TS5B_M (D2-PAK, 6-Leads, Body 8.6x10.2mm, Pitch 1.7mm, Lead Span 14.1mm, IPC Low Density)
pins: 1 EN (in), 2 IN (power), 3 GND (power), 4 OUT (power), 5 ~{ERR} (oc), 6 DAP (power)

## LP38511TSX-1.8/NOPB
designator U?
800 mA Fast-Transient Response Low-Dropout Linear Voltage Regulator with Error Flag, 5-pin TO-263, Pb-Free; PartNumber: LP38511TSX-1.8/NOPB; Manufacturer: National Semiconductor; PackageTopMarking: NSUZXYTTE#*LP38511*TS-1.8; PowerWise: N; CompType: LDO IC; Published: 1-Mar-2010; DatasheetVersion: May-2008; PackageVersion: revD, Apr-2005; PackageReference: TS5B; Publisher: Altium Limited; PackageDescription: TO-263, Molded, .400 x .390 x .180in, 5 Lead, .067in Pitch, Surface Mount; Supplier 1: Digi-Key; Supplier Part Number 1: LP38511TSX-1.8-ND; RoHS: Y; PinCount: 5; Code_JEDEC: MO-169-AB; ComponentLink1Description: LP38511 Datasheet; ComponentLink1URL: http://www.national.com/ds/LP/LP38511.pdf; ComponentLink2Description: LP38511 Web Page; ComponentLink2URL: http://www.national.com/pf/LP/LP38511.html; ComponentLink3Description: TS5B Package Page; ComponentLink3URL: http://www.national.com/packaging/folders/ts5b.html
footprint TS5B_N (D2-PAK, 6-Leads, Body 8.6x10.2mm, Pitch 1.7mm, Lead Span 14.1mm, IPC Medium Density)
footprint TS5B_L (D2-PAK, 6-Leads, Body 8.6x10.2mm, Pitch 1.7mm, Lead Span 14.1mm, IPC High Density)
footprint TS5B_M (D2-PAK, 6-Leads, Body 8.6x10.2mm, Pitch 1.7mm, Lead Span 14.1mm, IPC Low Density)
pins: 1 EN (in), 2 IN (power), 3 GND (power), 4 OUT (power), 5 ~{ERR} (oc), 6 DAP (power)

## LP38512MR-ADJ
designator U?
1.5A Fast-Transient Response Low-Dropout Linear Voltage Regulator with Error Flag, 8-pin PSOP; PartNumber: LP38512MR-ADJ; Manufacturer: National Semiconductor; PackageTopMarking: NSXYTT*L38512*-ADJ; PowerWise: N; CompType: LDO IC; Published: 29-May-2009; DatasheetVersion: Feb-2009; PackageVersion: revB, Dec-2007; PackageReference: MRA08B; Publisher: Altium Limited; PackageDescription: Molded, PSOP .193 x .154 x .058in, 8 Lead, .050in Pitch, Large DAP; RoHS: Y; PinCount: 8; Code_JEDEC: MS-012-AA; ComponentLink1Description: LP38512 Datasheet; ComponentLink1URL: http://www.national.com/ds/LP/LP38512-ADJ.pdf; ComponentLink2Description: LP38512 Web Page; ComponentLink2URL: http://www.national.com/pf/LP/LP38512.html; ComponentLink3Description: MRA08B Package Page; ComponentLink3URL: http://www.national.com/packaging/folders/mra08b.html
footprint MRA08B_N (SOIC, 8-Leads, Body 4.9x3.9mm, Pitch 1.27mm, Exposed Pad, IPC Medium Density)
footprint MRA08B_L (SOIC, 8-Leads, Body 4.9x3.9mm, Pitch 1.27mm, Exposed Pad, IPC High Density)
footprint MRA08B_M (SOIC, 8-Leads, Body 4.9x3.9mm, Pitch 1.27mm, Exposed Pad, IPC Low Density)
pins: 1 OUT (power), 2 OUT (power), 3 ADJ, 4 NC, 5 GND (power), 6 EN (in), 7 IN (power), 8 IN (power), 9 DAP

## LP38512MR-ADJ/NOPB
designator U?
1.5A Fast-Transient Response Adjustable Low-Dropout Linear Voltage Regulator, 8-pin PSOP, Pb-Free; PartNumber: LP38512MR-ADJ/NOPB; Manufacturer: National Semiconductor; PackageTopMarking: NSXYTT*L38512*-ADJ; PowerWise: N; CompType: LDO IC; Published: 1-Mar-2010; DatasheetVersion: Feb-2009; PackageVersion: revB, Dec-2007; PackageReference: MRA08B; Publisher: Altium Limited; PackageDescription: Molded, PSOP .193 x .154 x .058in, 8 Lead, .050in Pitch, Large DAP; Supplier 1: Digi-Key; Supplier Part Number 1: LP38512MR-ADJ-ND; Supplier 2: Farnell; Supplier Part Number 2: 1714825; RoHS: Y; PinCount: 8; Code_JEDEC: MS-012-AA; ComponentLink1Description: LP38512 Datasheet; ComponentLink1URL: http://www.national.com/ds/LP/LP38512-ADJ.pdf; ComponentLink2Description: LP38512 Web Page; ComponentLink2URL: http://www.national.com/pf/LP/LP38512.html; ComponentLink3Description: MRA08B Package Page; ComponentLink3URL: http://www.national.com/packaging/folders/mra08b.html
footprint MRA08B_N (SOIC, 8-Leads, Body 4.9x3.9mm, Pitch 1.27mm, Exposed Pad, IPC Medium Density)
footprint MRA08B_L (SOIC, 8-Leads, Body 4.9x3.9mm, Pitch 1.27mm, Exposed Pad, IPC High Density)
footprint MRA08B_M (SOIC, 8-Leads, Body 4.9x3.9mm, Pitch 1.27mm, Exposed Pad, IPC Low Density)
pins: 1 OUT (power), 2 OUT (power), 3 ADJ, 4 NC, 5 GND (power), 6 EN (in), 7 IN (power), 8 IN (power), 9 DAP

## LP38512MRX-ADJ/NOPB
designator U?
1.5A Fast-Transient Response Adjustable Low-Dropout Linear Voltage Regulator, 8-pin PSOP, Pb-Free; PartNumber: LP38512MRX-ADJ/NOPB; Manufacturer: National Semiconductor; PackageTopMarking: NSXYTT*L38512*-ADJ; PowerWise: N; CompType: LDO IC; Published: 1-Mar-2010; DatasheetVersion: Feb-2009; PackageVersion: revB, Dec-2007; PackageReference: MRA08B; Publisher: Altium Limited; PackageDescription: Molded, PSOP .193 x .154 x .058in, 8 Lead, .050in Pitch, Large DAP; Supplier 1: Digi-Key; Supplier Part Number 1: LP38512MRX-ADJ-ND; RoHS: Y; PinCount: 8; Code_JEDEC: MS-012-AA; ComponentLink1Description: LP38512 Datasheet; ComponentLink1URL: http://www.national.com/ds/LP/LP38512-ADJ.pdf; ComponentLink2Description: LP38512 Web Page; ComponentLink2URL: http://www.national.com/pf/LP/LP38512.html; ComponentLink3Description: MRA08B Package Page; ComponentLink3URL: http://www.national.com/packaging/folders/mra08b.html
footprint MRA08B_N (SOIC, 8-Leads, Body 4.9x3.9mm, Pitch 1.27mm, Exposed Pad, IPC Medium Density)
footprint MRA08B_L (SOIC, 8-Leads, Body 4.9x3.9mm, Pitch 1.27mm, Exposed Pad, IPC High Density)
footprint MRA08B_M (SOIC, 8-Leads, Body 4.9x3.9mm, Pitch 1.27mm, Exposed Pad, IPC Low Density)
pins: 1 OUT (power), 2 OUT (power), 3 ADJ, 4 NC, 5 GND (power), 6 EN (in), 7 IN (power), 8 IN (power), 9 DAP

## LP38512TJ-1.8
designator U?
1.5A Fast-Transient Response Low-Dropout Linear Voltage Regulator with Error Flag, 6-pin TO-263 Thin; PartNumber: LP38512TJ-1.8; Manufacturer: National Semiconductor; PackageTopMarking: NSUZXYTTE#*L38512TJ*-1.8; PowerWise: N; CompType: LDO IC; Published: 4-Dec-2008; DatasheetVersion: May-2008; PackageVersion: revE, Jan-2008; PackageReference: TJ5A; Publisher: Altium Limited; PackageDescription: Thin TO-263, Molded, 9.85 x 10.16 x 2mm Body, 5 Lead, 1.7mm Pitch, Surface Mount; RoHS: Y; PinCount: 5; ComponentLink1Description: LP38512 Datasheet; ComponentLink1URL: http://www.national.com/ds/LP/LP38512.pdf; ComponentLink2Description: LP38512 Web Page; ComponentLink2URL: http://www.national.com/pf/LP/LP38512.html; ComponentLink3Description: TJ5A Package Page; ComponentLink3URL: http://www.national.com/packaging/folders/tj5a.html
footprint TJ5A_N (D2-PAK, 6-Leads, Body 9.9x10.2mm, Pitch 1.7mm, Lead Span 14mm, IPC Medium Density)
footprint TJ5A_L (D2-PAK, 6-Leads, Body 9.9x10.2mm, Pitch 1.7mm, Lead Span 14mm, IPC High Density)
footprint TJ5A_M (D2-PAK, 6-Leads, Body 9.9x10.2mm, Pitch 1.7mm, Lead Span 14mm, IPC Low Density)
pins: 1 EN (in), 2 IN (power), 3 GND (power), 4 OUT (power), 5 ~{ERR} (oc), 6 DAP (power)

## LP38512TJ-1.8/NOPB
designator U?
1.5A Fast-Transient Response Low-Dropout Linear Voltage Regulator with Error Flag, 5-pin TO-263 Thin, Pb-Free; PartNumber: LP38512TJ-1.8/NOPB; Manufacturer: National Semiconductor; PackageTopMarking: NSUZXYTTE#*L38512TJ*-1.8; PowerWise: N; CompType: LDO IC; Published: 1-Mar-2010; DatasheetVersion: May-2008; PackageVersion: revE, Jan-2008; PackageReference: TJ5A; Publisher: Altium Limited; PackageDescription: Thin TO-263, Molded, 9.85 x 10.16 x 2mm Body, 5 Lead, 1.7mm Pitch, Surface Mount; Supplier 1: Digi-Key; Supplier Part Number 1: LP38512TJ-1.8TR-ND; Supplier 2: Digi-Key; Supplier Part Number 2: LP38512TJ-1.8CT-ND; Supplier 3: Digi-Key; Supplier Part Number 3: LP38512TJ-1.8DKR-ND; RoHS: Y; PinCount: 5; ComponentLink1Description: LP38512 Datasheet; ComponentLink1URL: http://www.national.com/ds/LP/LP38512.pdf; ComponentLink2Description: LP38512 Web Page; ComponentLink2URL: http://www.national.com/pf/LP/LP38512.html; ComponentLink3Description: TJ5A Package Page; ComponentLink3URL: http://www.national.com/packaging/folders/tj5a.html
footprint TJ5A_N (D2-PAK, 6-Leads, Body 9.9x10.2mm, Pitch 1.7mm, Lead Span 14mm, IPC Medium Density)
footprint TJ5A_L (D2-PAK, 6-Leads, Body 9.9x10.2mm, Pitch 1.7mm, Lead Span 14mm, IPC High Density)
footprint TJ5A_M (D2-PAK, 6-Leads, Body 9.9x10.2mm, Pitch 1.7mm, Lead Span 14mm, IPC Low Density)
pins: 1 EN (in), 2 IN (power), 3 GND (power), 4 OUT (power), 5 ~{ERR} (oc), 6 DAP (power)

## LP38512TJ-ADJ
designator U?
1.5A Fast-Transient Response Low-Dropout Linear Voltage Regulator with Error Flag, 6-pin TO-263 Thin; PartNumber: LP38512TJ-ADJ; Manufacturer: National Semiconductor; PackageTopMarking: NSUZXYTTE#*LP38512*TJ-ADJ; PowerWise: N; CompType: LDO IC; Published: 29-May-2009; DatasheetVersion: Feb-2009; PackageVersion: revE, Jan-2008; PackageReference: TJ5A; Publisher: Altium Limited; PackageDescription: Thin TO-263, Molded, 9.85 x 10.16 x 2mm Body, 5 Lead, 1.7mm Pitch, Surface Mount; RoHS: Y; PinCount: 5; ComponentLink1Description: LP38512 Datasheet; ComponentLink1URL: http://www.national.com/ds/LP/LP38512-ADJ.pdf; ComponentLink2Description: LP38512 Web Page; ComponentLink2URL: http://www.national.com/pf/LP/LP38512.html; ComponentLink3Description: TJ5A Package Page; ComponentLink3URL: http://www.national.com/packaging/folders/tj5a.html
footprint TJ5A_N (D2-PAK, 6-Leads, Body 9.9x10.2mm, Pitch 1.7mm, Lead Span 14mm, IPC Medium Density)
footprint TJ5A_L (D2-PAK, 6-Leads, Body 9.9x10.2mm, Pitch 1.7mm, Lead Span 14mm, IPC High Density)
footprint TJ5A_M (D2-PAK, 6-Leads, Body 9.9x10.2mm, Pitch 1.7mm, Lead Span 14mm, IPC Low Density)
pins: 1 EN (in), 2 IN (power), 3 GND (power), 4 OUT (power), 5 ADJ, 6 DAP (power)

## LP38512TJ-ADJ/NOPB
designator U?
1.5A Fast-Transient Response Adjustable Low-Dropout Linear Voltage Regulator, 5-pin TO-263 Thin, Pb-Free; PartNumber: LP38512TJ-ADJ/NOPB; Manufacturer: National Semiconductor; PackageTopMarking: NSUZXYTTE#*LP38512*TJ-ADJ; PowerWise: N; CompType: LDO IC; Published: 1-Mar-2010; DatasheetVersion: Feb-2009; PackageVersion: revE, Jan-2008; PackageReference: TJ5A; Publisher: Altium Limited; PackageDescription: Thin TO-263, Molded, 9.85 x 10.16 x 2mm Body, 5 Lead, 1.7mm Pitch, Surface Mount; Supplier 1: Digi-Key; Supplier Part Number 1: LP38512TJ-ADJTR-ND; Supplier 2: Digi-Key; Supplier Part Number 2: LP38512TJ-ADJCT-ND; Supplier 3: Digi-Key; Supplier Part Number 3: LP38512TJ-ADJDKR-ND; RoHS: Y; PinCount: 5; ComponentLink1Description: LP38512 Datasheet; ComponentLink1URL: http://www.national.com/ds/LP/LP38512-ADJ.pdf; ComponentLink2Description: LP38512 Web Page; ComponentLink2URL: http://www.national.com/pf/LP/LP38512.html; ComponentLink3Description: TJ5A Package Page; ComponentLink3URL: http://www.national.com/packaging/folders/tj5a.html
footprint TJ5A_N (D2-PAK, 6-Leads, Body 9.9x10.2mm, Pitch 1.7mm, Lead Span 14mm, IPC Medium Density)
footprint TJ5A_L (D2-PAK, 6-Leads, Body 9.9x10.2mm, Pitch 1.7mm, Lead Span 14mm, IPC High Density)
footprint TJ5A_M (D2-PAK, 6-Leads, Body 9.9x10.2mm, Pitch 1.7mm, Lead Span 14mm, IPC Low Density)
pins: 1 EN (in), 2 IN (power), 3 GND (power), 4 OUT (power), 5 ADJ, 6 DAP (power)

## LP38512TS-1.8
designator U?
1.5A Fast-Transient Response Low-Dropout Linear Voltage Regulator with Error Flag, 5-pin TO-263; PartNumber: LP38512TS-1.8; Manufacturer: National Semiconductor; PackageTopMarking: NSUZXYTTE#*LP38512*TS-1.8; PowerWise: N; CompType: LDO IC; Published: 4-Dec-2008; DatasheetVersion: May-2008; PackageVersion: revD, Apr-2005; PackageReference: TS5B; Publisher: Altium Limited; PackageDescription: TO-263, Molded, .400 x .390 x .180in, 5 Lead, .067in Pitch, Surface Mount; Supplier 1: Farnell; Supplier Part Number 1: 1535371; RoHS: Y; PinCount: 5; Code_JEDEC: MO-169-AB; ComponentLink1Description: LP38512 Datasheet; ComponentLink1URL: http://www.national.com/ds/LP/LP38512.pdf; ComponentLink2Description: LP38512 Web Page; ComponentLink2URL: http://www.national.com/pf/LP/LP38512.html; ComponentLink3Description: TS5B Package Page; ComponentLink3URL: http://www.national.com/packaging/folders/ts5b.html
footprint TS5B_N (D2-PAK, 6-Leads, Body 8.6x10.2mm, Pitch 1.7mm, Lead Span 14.1mm, IPC Medium Density)
footprint TS5B_L (D2-PAK, 6-Leads, Body 8.6x10.2mm, Pitch 1.7mm, Lead Span 14.1mm, IPC High Density)
footprint TS5B_M (D2-PAK, 6-Leads, Body 8.6x10.2mm, Pitch 1.7mm, Lead Span 14.1mm, IPC Low Density)
pins: 1 EN (in), 2 IN (power), 3 GND (power), 4 OUT (power), 5 ~{ERR} (oc), 6 DAP (power)

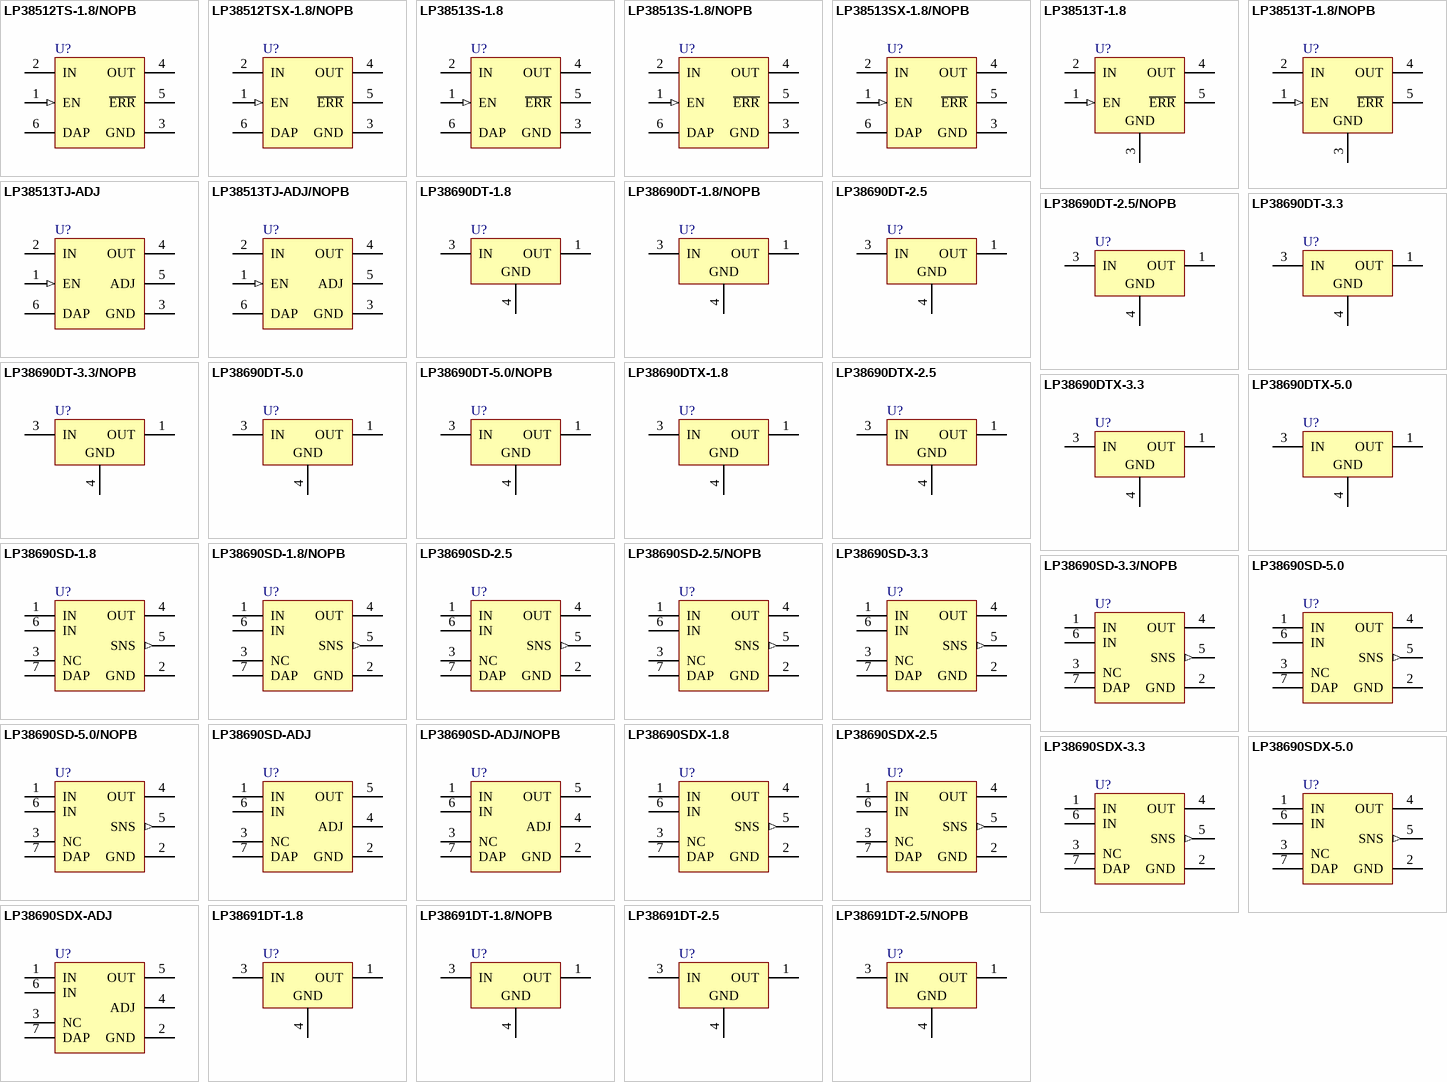
[diagram p59: symbols LP38512TS-1.8/NOPB to LP38691DT-2.5/NOPB]

## LP38512TS-1.8/NOPB
designator U?
1.5A Fast-Transient Response Low-Dropout Linear Voltage Regulator with Error Flag, 5-pin TO-263, Pb-Free; PartNumber: LP38512TS-1.8/NOPB; Manufacturer: National Semiconductor; PackageTopMarking: NSUZXYTTE#*LP38512*TS-1.8; PowerWise: N; CompType: LDO IC; Published: 1-Mar-2010; DatasheetVersion: May-2008; PackageVersion: revD, Apr-2005; PackageReference: TS5B; Publisher: Altium Limited; PackageDescription: TO-263, Molded, .400 x .390 x .180in, 5 Lead, .067in Pitch, Surface Mount; Supplier 1: Digi-Key; Supplier Part Number 1: LP38512TS-1.8-ND; RoHS: Y; PinCount: 5; Code_JEDEC: MO-169-AB; ComponentLink1Description: LP38512 Datasheet; ComponentLink1URL: http://www.national.com/ds/LP/LP38512.pdf; ComponentLink2Description: LP38512 Web Page; ComponentLink2URL: http://www.national.com/pf/LP/LP38512.html; ComponentLink3Description: TS5B Package Page; ComponentLink3URL: http://www.national.com/packaging/folders/ts5b.html
footprint TS5B_N (D2-PAK, 6-Leads, Body 8.6x10.2mm, Pitch 1.7mm, Lead Span 14.1mm, IPC Medium Density)
footprint TS5B_L (D2-PAK, 6-Leads, Body 8.6x10.2mm, Pitch 1.7mm, Lead Span 14.1mm, IPC High Density)
footprint TS5B_M (D2-PAK, 6-Leads, Body 8.6x10.2mm, Pitch 1.7mm, Lead Span 14.1mm, IPC Low Density)
pins: 1 EN (in), 2 IN (power), 3 GND (power), 4 OUT (power), 5 ~{ERR} (oc), 6 DAP (power)

## LP38512TSX-1.8/NOPB
designator U?
1.5A Fast-Transient Response Low-Dropout Linear Voltage Regulator with Error Flag, 5-pin TO-263, Pb-Free; PartNumber: LP38512TSX-1.8/NOPB; Manufacturer: National Semiconductor; PackageTopMarking: NSUZXYTTE#*LP38512*TS-1.8; PowerWise: N; CompType: LDO IC; Published: 1-Mar-2010; DatasheetVersion: May-2008; PackageVersion: revD, Apr-2005; PackageReference: TS5B; Publisher: Altium Limited; PackageDescription: TO-263, Molded, .400 x .390 x .180in, 5 Lead, .067in Pitch, Surface Mount; Supplier 1: Digi-Key; Supplier Part Number 1: LP38512TSX-1.8-ND; RoHS: Y; PinCount: 5; Code_JEDEC: MO-169-AB; ComponentLink1Description: LP38512 Datasheet; ComponentLink1URL: http://www.national.com/ds/LP/LP38512.pdf; ComponentLink2Description: LP38512 Web Page; ComponentLink2URL: http://www.national.com/pf/LP/LP38512.html; ComponentLink3Description: TS5B Package Page; ComponentLink3URL: http://www.national.com/packaging/folders/ts5b.html
footprint TS5B_N (D2-PAK, 6-Leads, Body 8.6x10.2mm, Pitch 1.7mm, Lead Span 14.1mm, IPC Medium Density)
footprint TS5B_L (D2-PAK, 6-Leads, Body 8.6x10.2mm, Pitch 1.7mm, Lead Span 14.1mm, IPC High Density)
footprint TS5B_M (D2-PAK, 6-Leads, Body 8.6x10.2mm, Pitch 1.7mm, Lead Span 14.1mm, IPC Low Density)
pins: 1 EN (in), 2 IN (power), 3 GND (power), 4 OUT (power), 5 ~{ERR} (oc), 6 DAP (power)